# Altium footprint library my_components.PcbLib: 27 footprints (part 2 of 2)
Each footprint in its own frame and in the unit in brackets; x right, y up, seen from the top. Pads: shape width x height; smd on the part's side, far side on the other; paste and mask are expansions set on the pad; w line width, h text height; cw(c..) or ccw(c..) is an arc to the next point about the centre after c.
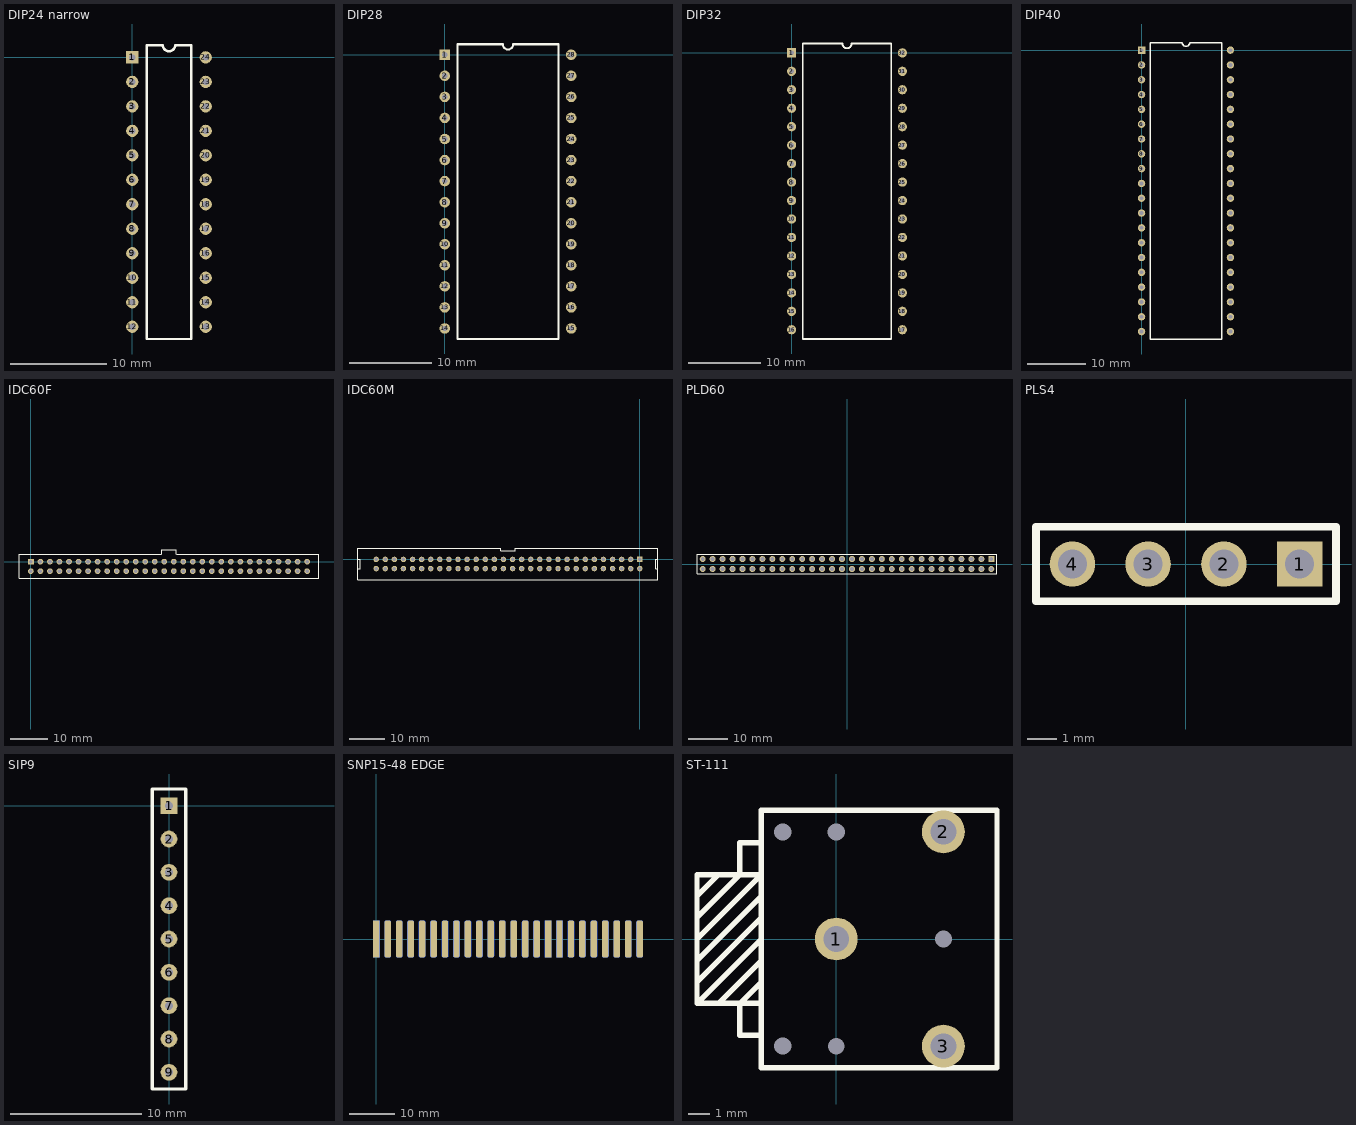
[diagram p1: the footprints below, top view; thin cyan lines are the x and y axes]

## DIP24 narrow [mil]
pads (24):
  rect 50x50 hole 25: 1(0,0)
  round 50 hole 25: 2(0,-100) 3(0,-200) 4(0,-300) 5(0,-400) 6(0,-500) 7(0,-600) 8(0,-700) 9(0,-800) 10(0,-900) 11(0,-1000) 12(0,-1100) 13(300,-1100) 14(300,-1000) 15(300,-900) 16(300,-800) 17(300,-700) 18(300,-600) 19(300,-500) 20(300,-400) 21(300,-300) 22(300,-200) 23(300,-100) 24(300,0)
Top Overlay:
  lines w10: 60,-1150 60,50 125,50 ccw(c150,50) 175,50 240,50 240,-1150 60,-1150

## DIP28 [mil]
pads (28):
  rect 50x50 hole 25: 1(0,0)
  round 50 hole 25: 2(0,-100) 3(0,-200) 4(0,-300) 5(0,-400) 6(0,-500) 7(0,-600) 8(0,-700) 9(0,-800) 10(0,-900) 11(0,-1000) 12(0,-1100) 13(0,-1200) 14(0,-1300) 15(600,-1300) 16(600,-1200) 17(600,-1100) 18(600,-1000) 19(600,-900) 20(600,-800) 21(600,-700) 22(600,-600) 23(600,-500) 24(600,-400) 25(600,-300) 26(600,-200) 27(600,-100) 28(600,0)
Top Overlay:
  lines w10: 60,-1350 60,50 275,50 ccw(c300,50) 325,50 540,50 540,-1350 60,-1350
3D body "DIP-28 15.24mm Package.STEP": height 169.29, standoff -135.84, extent -3.78,-1370.67 610,70.67

## DIP32 [mil]
pads (32):
  rect 50x50 hole 25: 1(0,0)
  round 50 hole 25: 2(0,-100) 3(0,-200) 4(0,-300) 5(0,-400) 6(0,-500) 7(0,-600) 8(0,-700) 9(0,-800) 10(0,-900) 11(0,-1000) 12(0,-1100) 13(0,-1200) 14(0,-1300) 15(0,-1400) 16(0,-1500) 17(600,-1500) 18(600,-1400) 19(600,-1300) 20(600,-1200) 21(600,-1100) 22(600,-1000) 23(600,-900) 24(600,-800) 25(600,-700) 26(600,-600) 27(600,-500) 28(600,-400) 29(600,-300) 30(600,-200) 31(600,-100) 32(600,0)
Top Overlay:
  lines w10: 60,-1550 60,50 275,50 ccw(c300,50) 325,50 540,50 540,-1550 60,-1550
3D body "DIP-32 W15.42mm Package.STEP": height 169.29, standoff -135.84, extent -10,-1573.62 603.78,73.62

## DIP40 [mil]
pads (40):
  rect 50x50 hole 25: 1(0,0)
  round 50 hole 25: 2(0,-100) 3(0,-200) 4(0,-300) 5(0,-400) 6(0,-500) 7(0,-600) 8(0,-700) 9(0,-800) 10(0,-900) 11(0,-1000) 12(0,-1100) 13(0,-1200) 14(0,-1300) 15(0,-1400) 16(0,-1500) 17(0,-1600) 18(0,-1700) 19(0,-1800) 20(0,-1900) 21(600,-1900) 22(600,-1800) 23(600,-1700) 24(600,-1600) 25(600,-1500) 26(600,-1400) 27(600,-1300) 28(600,-1200) 29(600,-1100) 30(600,-1000) 31(600,-900) 32(600,-800) 33(600,-700) 34(600,-600) 35(600,-500) 36(600,-400) 37(600,-300) 38(600,-200) 39(600,-100) 40(600,0)
Top Overlay:
  lines w10: 60,-1950 540,-1950 540,50 325,50 cw(c300,50) 275,50 60,50 60,-1950
3D body "DIP-40 W15.24mm Package.STEP": height 169.29, standoff -135.84, extent -3.78,-1979.53 610,79.53

## IDC60F [mil]
pads (60):
  rect 60x60 hole 38: 1(0,0)
  round 60 hole 38: 2(0,-100) 3(100,0) 4(100,-100) 5(200,0) 6(200,-100) 7(300,0) 8(300,-100) 9(400,0) 10(400,-100) 11(500,0) 12(500,-100) 13(600,0) 14(600,-100) 15(700,0) 16(700,-100) 17(800,0) 18(800,-100) 19(900,0) 20(900,-100) 21(1000,0) 22(1000,-100) 23(1100,0) 24(1100,-100) 25(1200,0) 26(1200,-100) 27(1300,0) 28(1300,-100) 29(1400,0) 30(1400,-100) 31(1500,0) 32(1500,-100) 33(1600,0) 34(1600,-100) 35(1700,0) 36(1700,-100) 37(1800,0) 38(1800,-100) 39(1900,0) 40(1900,-100) 41(2000,0) 42(2000,-100) 43(2100,0) 44(2100,-100) 45(2200,0) 46(2200,-100) 47(2300,0) 48(2300,-100) 49(2400,0) 50(2400,-100) 51(2500,0) 52(2500,-100) 53(2600,0) 54(2600,-100) 55(2700,0) 56(2700,-100) 57(2800,0) 58(2800,-100) 59(2900,0) 60(2900,-100)
Top Overlay:
  lines w10: 1370,75 -125,75 -125,-175 3025,-175 3025,75 1530,75 ; 1375,75 1375,125 1525,125 1525,75

## IDC60M [mil]
pads (60):
  rect 60x60 hole 38: 1(0,0)
  round 60 hole 38: 2(0,-100) 3(-100,0) 4(-100,-100) 5(-200,0) 6(-200,-100) 7(-300,0) 8(-300,-100) 9(-400,0) 10(-400,-100) 11(-500,0) 12(-500,-100) 13(-600,0) 14(-600,-100) 15(-700,0) 16(-700,-100) 17(-800,0) 18(-800,-100) 19(-900,0) 20(-900,-100) 21(-1000,0) 22(-1000,-100) 23(-1100,0) 24(-1100,-100) 25(-1200,0) 26(-1200,-100) 27(-1300,0) 28(-1300,-100) 29(-1400,0) 30(-1400,-100) 31(-1500,0) 32(-1500,-100) 33(-1600,0) 34(-1600,-100) 35(-1700,0) 36(-1700,-100) 37(-1800,0) 38(-1800,-100) 39(-1900,0) 40(-1900,-100) 41(-2000,0) 42(-2000,-100) 43(-2100,0) 44(-2100,-100) 45(-2200,0) 46(-2200,-100) 47(-2300,0) 48(-2300,-100) 49(-2400,0) 50(-2400,-100) 51(-2500,0) 52(-2500,-100) 53(-2600,0) 54(-2600,-100) 55(-2700,0) 56(-2700,-100) 57(-2800,0) 58(-2800,-100) 59(-2900,0) 60(-2900,-100)
Top Overlay:
  lines w10: -3100,-100 -3075,-100 -3075,0 -3100,0 ; 200,-100 175,-100 175,0 200,0 ; -3100,-225 200,-225 200,125 -1370,125 -1370,95 -1530,95 -1530,125 -3100,125 -3100,-225

## PLD60 [mil]
pads (60):
  rect 60x60 hole 38: 1(1450,50)
  round 60 hole 38: 2(1450,-50) 3(1350,50) 4(1350,-50) 5(1250,50) 6(1250,-50) 7(1150,50) 8(1150,-50) 9(1050,50) 10(1050,-50) 11(950,50) 12(950,-50) 13(850,50) 14(850,-50) 15(750,50) 16(750,-50) 17(650,50) 18(650,-50) 19(550,50) 20(550,-50) 21(450,50) 22(450,-50) 23(350,50) 24(350,-50) 25(250,50) 26(250,-50) 27(150,50) 28(150,-50) 29(50,50) 30(50,-50) 31(-50,50) 32(-50,-50) 33(-150,50) 34(-150,-50) 35(-250,50) 36(-250,-50) 37(-350,50) 38(-350,-50) 39(-450,50) 40(-450,-50) 41(-550,50) 42(-550,-50) 43(-650,50) 44(-650,-50) 45(-750,50) 46(-750,-50) 47(-850,50) 48(-850,-50) 49(-950,50) 50(-950,-50) 51(-1050,50) 52(-1050,-50) 53(-1150,50) 54(-1150,-50) 55(-1250,50) 56(-1250,-50) 57(-1350,50) 58(-1350,-50) 59(-1450,50) 60(-1450,-50)
Top Overlay:
  lines w10: -1507,-97 -1507,97 1507,97 1507,-97 -1507,-97
3D body "PLD-60.step": height 338.58, standoff -118.11, extent -1499.99,-99.99 1500.01,100.01

## PLS4 [mil]
pads (4):
  rect 60x60 hole 38: 1(150,0)
  round 60 hole 38: 2(50,0) 3(-50,0) 4(-150,0)
Top Overlay:
  lines w10: -197.99,-49.21 -197.99,49.21 198,49.21 198,-49.21 -197.99,-49.21
3D body "PLS-4.STEP": height 332.28, standoff -118.11, extent -200,-50 200,50

## SIP9 [mil]
pads (9):
  rect 50x50 hole 25: 1(0,0)
  round 50 hole 25: 2(0,-100) 3(0,-200) 4(0,-300) 5(0,-400) 6(0,-500) 7(0,-600) 8(0,-700) 9(0,-800)
Top Overlay:
  lines w10: -50,-850 -50,50 50,50 50,-850 -50,-850
3D body "Resistor Network Array SIP 9-8.stp": height 239.37, standoff -114.94, extent -49.21,-850.67 49.22,50.91

## SNP15-48 EDGE [mm]
pads (48):
  rect 1.4x8 smd far side: A1(0,0) A16(37.5,0) A17(40,0)
  rrect50% 1.4x8 smd far side: A2(2.5,0) A3(5,0) A4(7.5,0) A5(10,0) A6(12.5,0) A7(15,0) A8(17.5,0) A9(20,0) A10(22.5,0) A11(25,0) A12(27.5,0) A13(30,0) A14(32.5,0) A15(35,0) A18(42.5,0) A19(45,0) A20(47.5,0) A21(50,0) A22(52.5,0) A23(55,0) A24(57.5,0)
  rect 1.4x8 smd: B1(0,0) B16(37.5,0) B17(40,0)
  rrect50% 1.4x8 smd: B2(2.5,0) B3(5,0) B4(7.5,0) B5(10,0) B6(12.5,0) B7(15,0) B8(17.5,0) B9(20,0) B10(22.5,0) B11(25,0) B12(27.5,0) B13(30,0) B14(32.5,0) B15(35,0) B18(42.5,0) B19(45,0) B20(47.5,0) B21(50,0) B22(52.5,0) B23(55,0) B24(57.5,0)

## ST-111 [mm]
pads (8):
  round 0 hole 0.762 unplated: 0(0,-5)
  round 2 hole 1.2: 1(0,0) 2(5,5) 3(5,-5)
  round 0 hole 0.8 unplated: ""(-2.5,-5) ""(-2.5,5) ""(0,5) ""(5,0)
Top Overlay:
  pour cut-out: -3.5,5
  lines w0.254: -6.5,0 -3.5,3 -6.5,3 -6.5,-3 ; -6.5,1 -4.5,3 -4.5,4.5 -3.5,4.5 ; -5.5,-3 -3.5,-1 ; -5.5,3 -6.5,2 ; -3.5,-4.5 -4.5,-4.5 -4.5,-3 ; -3.5,-3 -6.5,-3 ; -3.5,-2 -4.5,-3 ; -3.5,0 -6.5,-3 ; -3.5,1 -6.5,-2 ; -3.5,2 -6.5,-1 ; -6.5,-2 -6.5,-2 ; -6.5,-1 -6.5,-1 ; -6.5,2 -6.5,2 ; -4.5,-3 -4.5,-3 ; -3.5,-6 -3.5,6 7.5,6 7.5,-6 -3.5,-6
3D body "CUI_DEVICES_SJ1-3523N.STEP": height 6, standoff -2.8, extent -6.5,-6 7.5,6